# Altium footprint library DTSM3xNB.PcbLib: 1 footprints
Each footprint in its own frame and in the unit in brackets; x right, y up, seen from the top. Pads: shape width x height; smd on the part's side, far side on the other; paste and mask are expansions set on the pad; w line width, h text height; cw(c..) or ccw(c..) is an arc to the next point about the centre after c.
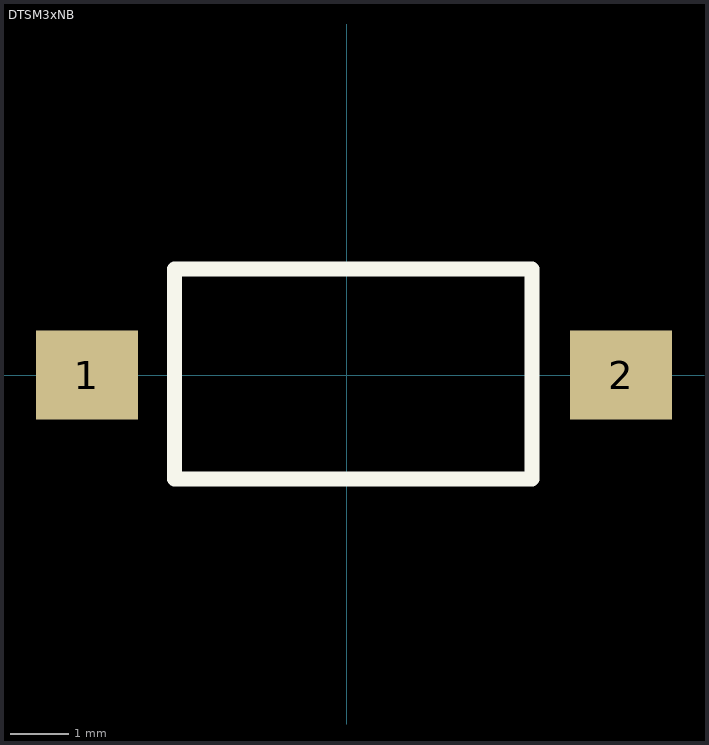
[diagram p0: the footprint, top view; thin cyan lines are the x and y axes]

## DTSM3xNB [mil]
pads (2):
  rect 68.9x60 smd: 1(-175,0) 2(185,0)
Top Overlay:
  lines w10: -116.02,-70 -116.02,71.5 125,71.5 125,-70 -116.02,-70
3D body: height 216.54, standoff 0, extent -150.6,-70 164.37,67.8